# EAGLE library part DRV134PA (library DRV134PA)
DRV134PA, Audio Amplifier 46dB +85 C 8-Pin PDIP Source: Datasheet <http://www.ti.com/lit/ds/symlink/drv134.pdf>
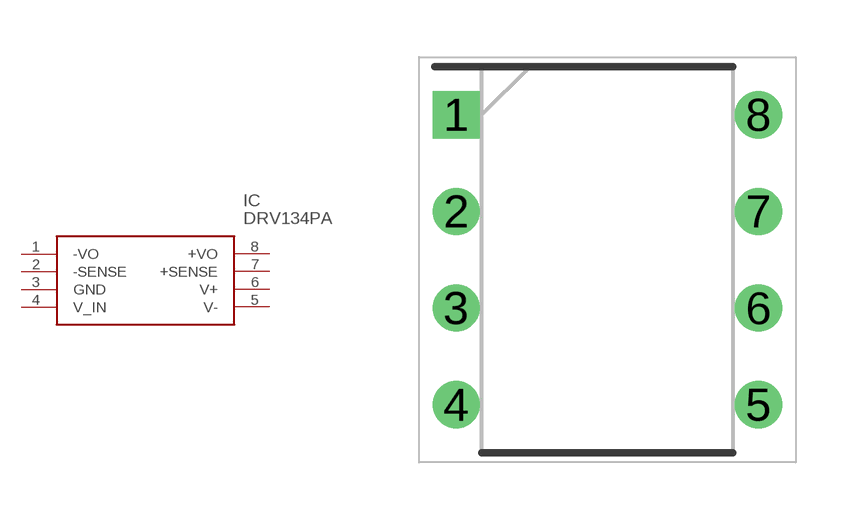
[diagram p0: symbol with the pads of DIP794W53P254L959H508Q8N; footprint DIP794W53P254L959H508Q8N]

Designator prefix IC

## DRV134PA (Arrow_Part_Number: DRV134PA; Arrow_Price-Stock: https://www.arrow.com/en/products/drv134pa/texas-instruments.html?utm_currency=USD&region=nac; Description: DRV134PA, Audio Amplifier 46dB +85 C 8-Pin PDIP; Height: 5.08mm; Manufacturer_Name: Texas Instruments; Manufacturer_Part_Number: DRV134PA; Mouser_Part_Number: 595-DRV134PA; Mouser_Price-Stock: https://www.mouser.co.uk/ProductDetail/Texas-Instruments/DRV134PA?qs=VBduBm9rCJQB2pI5Sv36eQ%3D%3D)  [DIP794W53P254L959H508Q8N]
1  -VO
2  -SENSE
3  GND
4  V_IN
5  V-
6  V+
7  +SENSE
8  +VO

## Footprint DIP794W53P254L959H508Q8N (pad centres in mm)
P (R-PDIP-T8)
drill 0.73 pad 1.13 square: 1 -3.97,3.81
drill 0.73 pad 1.13: 2 -3.97,1.27; 3 -3.97,-1.27; 4 -3.97,-3.81; 5 3.97,-3.81; 6 3.97,-1.27; 7 3.97,1.27; 8 3.97,3.81